# Altium schematic symbol library ti-video.SchLib: 2 symbols
Pins are listed as number, name and electrical type; pins without a type are passive.

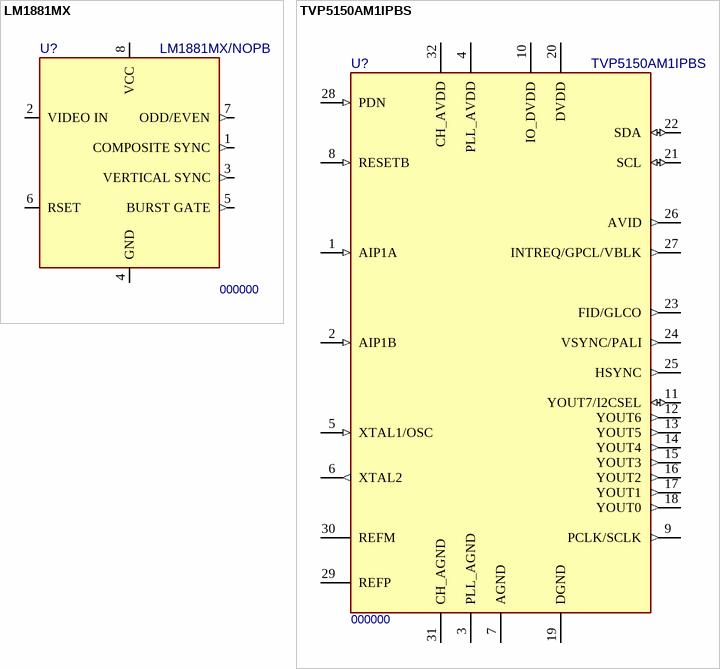
[diagram p0: symbols LM1881MX to TVP5150AM1IPBS]

## LM1881MX
designator U?, comment 000000  value LM1881MX/NOPB
Video Sync Separator; Package: SOIC-8; PN: 000000; ExtraInfo: *
footprint D (R-PDSO-G8) (Plastic Small Outline 8)
pins: 1 COMPOSITE SYNC (out), 2 VIDEO IN, 3 VERTICAL SYNC (out), 4 GND (power), 5 BURST GATE (out), 6 RSET, 7 ODD/EVEN (out), 8 VCC (power)
1 alternate drawing of the same symbol

## TVP5150AM1IPBS
designator U?, comment 000000  value TVP5150AM1IPBS
Ultralow-Power NTSC/PAL/SECAM Video Decoder; Package: PQFP-32; PN: 000000; ExtraInfo: *
footprint BPS (S-PQFP-G32) (TSQFP, 32-Leads, Body 7.1x7.1mm (max), Pitch 0.50mm, IPC Medium Density)
pins: 1 AIP1A (in), 2 AIP1B (in), 3 PLL_AGND (power), 4 PLL_AVDD (power), 5 XTAL1/OSC (in), 6 XTAL2 (out), 7 AGND (power), 8 RESETB (in), 9 PCLK/SCLK (out), 10 IO_DVDD (power), 11 YOUT7/I2CSEL (io), 12 YOUT6 (out), 13 YOUT5 (out), 14 YOUT4 (out), 15 YOUT3 (out), 16 YOUT2 (out), 17 YOUT1 (out), 18 YOUT0 (out), 19 DGND (power), 20 DVDD (power), 21 SCL (io), 22 SDA (io), 23 FID/GLCO (out), 24 VSYNC/PALI (out), 25 HSYNC (out), 26 AVID (out), 27 INTREQ/GPCL/VBLK (out), 28 PDN (in), 29 REFP (power), 30 REFM (power), 31 CH_AGND (power), 32 CH_AVDD (power)
1 alternate drawing of the same symbol